# Altium footprint library HP48GX.PcbLib: 18 footprints (part 2 of 2)
Each footprint in its own frame and in the unit in brackets; x right, y up, seen from the top. Pads: shape width x height; smd on the part's side, far side on the other; paste and mask are expansions set on the pad; w line width, h text height; cw(c..) or ccw(c..) is an arc to the next point about the centre after c.
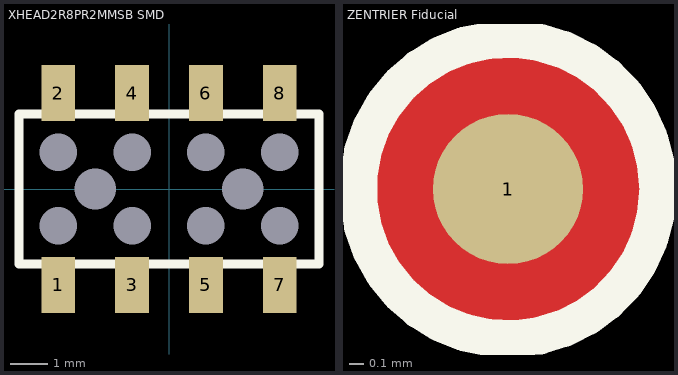
[diagram p1: the footprints below, top view; thin cyan lines are the x and y axes]

## XHEAD2R8PR2MMSB SMD [mm]
height 2.8
pads (18):
  round 0 hole 1.118 unplated: 0(-2,0) 0(2,0)
  rect 0.914x1.524 smd: 1(-3,-2.6) 2(-3,2.6) 3(-1,-2.6) 4(-1,2.6) 5(1,-2.6) 6(1,2.6) 7(3,-2.6) 8(3,2.6)
  round 0 hole 1.016 unplated: 1a(-3,-1) 2a(-3,1) 3a(-1,-1) 4a(-1,1) 5a(1,-1) 6a(1,1) 7a(3,-1) 8a(3,1)
Top Overlay:
  lines w0.254: -4.064,-2.032 4.064,-2.032 4.064,2.032 -4.064,2.032 -4.064,-2.032
3D body "XHEAD2R8PR2MMSB SMD.stp": height 2.8, standoff -0.6, extent -4,-2.9 4,2.9

## ZENTRIER Fiducial [mil]
pads (1):
  round 40 smd paste+0 mask+20: 1(0,0)
Top Layer:
  pour cut-out: 0,40 3.94,40 11.67,38.46 18.95,35.45 25.5,31.07 31.07,25.5 35.45,18.95 38.46,11.67 40,3.94 40,0 40,-3.94 38.46,-11.67 35.45,-18.95 31.07,-25.5 25.5,-31.07 18.95,-35.45 11.67,-38.46 3.94,-40 0,-40 -3.94,-40 -11.67,-38.46 -18.95,-35.45 -25.5,-31.07 -31.07,-25.5 -35.45,-18.95 -38.46,-11.67 -40,-3.94 -40,0 -40,3.94 -38.46,11.67 -35.45,18.95 -31.07,25.5 -25.5,31.07 -18.95,35.45 -11.67,38.46 -3.94,40
Top Overlay:
  circle w10: c0,0 r40